# EAGLE library part OVERO (library Overo)
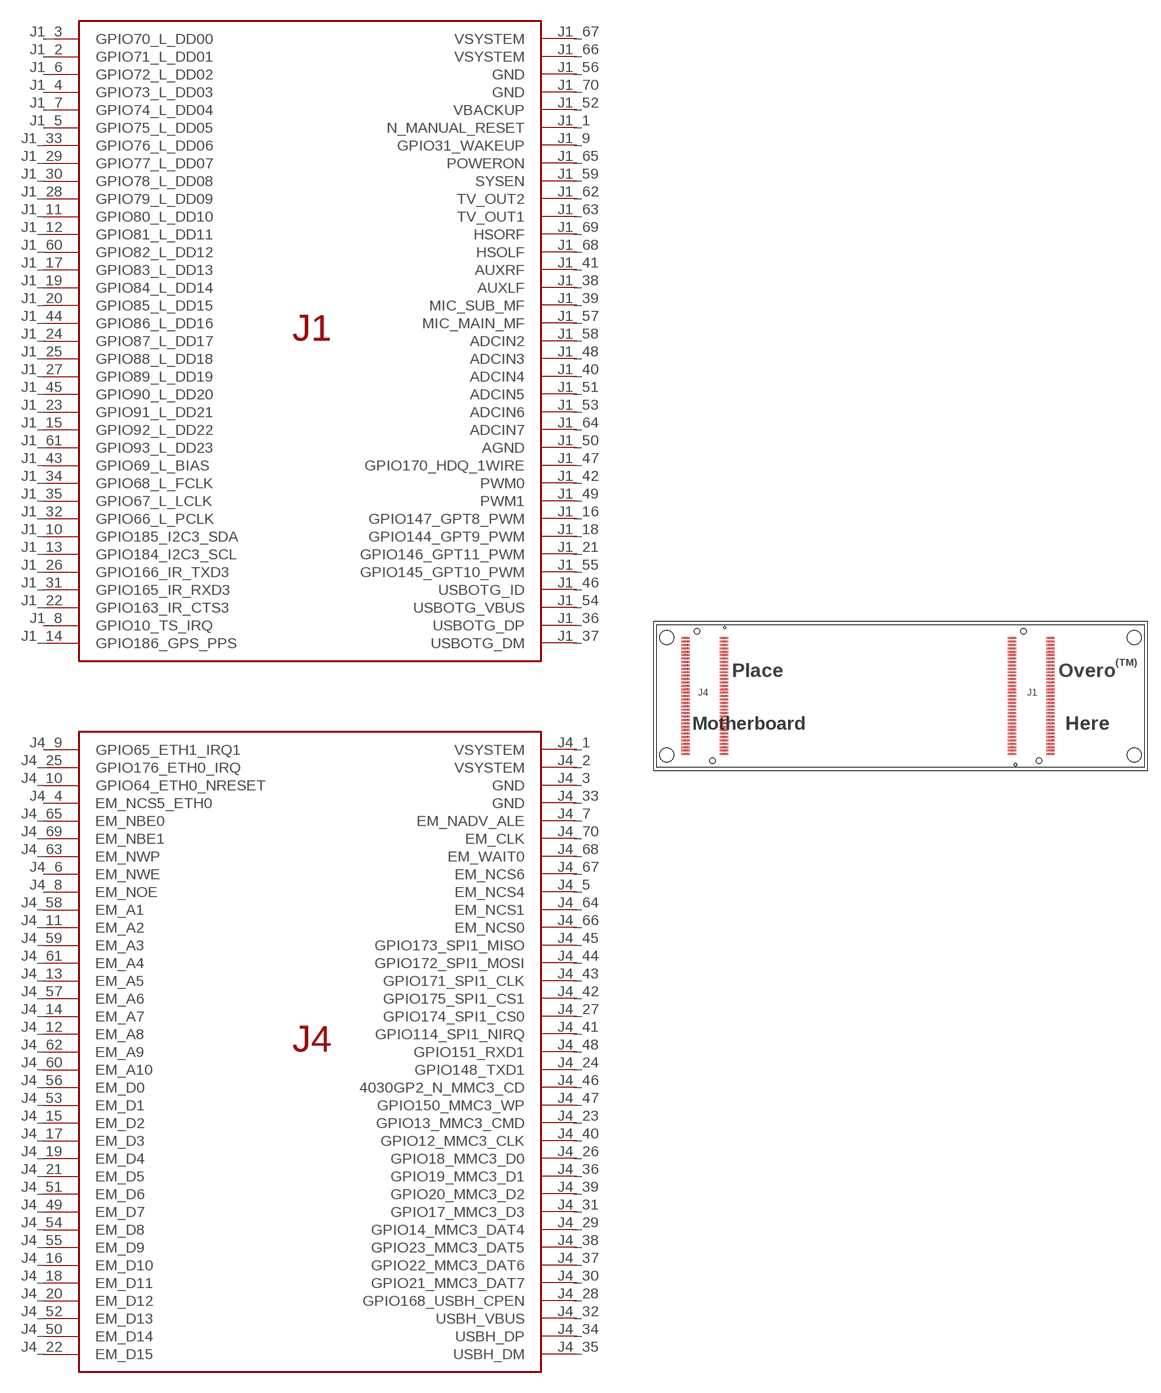
[diagram p0: symbol with the pads of OVERO; footprint OVERO]

Designator prefix -

## OVERO  [OVERO]
J1_1  N_MANUAL_RESET
J1_2  GPIO71_L_DD01
J1_3  GPIO70_L_DD00
J1_4  GPIO73_L_DD03
J1_5  GPIO75_L_DD05
J1_6  GPIO72_L_DD02
J1_7  GPIO74_L_DD04
J1_8  GPIO10_TS_IRQ
J1_9  GPIO31_WAKEUP
J1_10  GPIO185_I2C3_SDA
J1_11  GPIO80_L_DD10
J1_12  GPIO81_L_DD11
J1_13  GPIO184_I2C3_SCL
J1_14  GPIO186_GPS_PPS
J1_15  GPIO92_L_DD22
J1_16  GPIO147_GPT8_PWM
J1_17  GPIO83_L_DD13
J1_18  GPIO144_GPT9_PWM
J1_19  GPIO84_L_DD14
J1_20  GPIO85_L_DD15
J1_21  GPIO146_GPT11_PWM
J1_22  GPIO163_IR_CTS3
J1_23  GPIO91_L_DD21
J1_24  GPIO87_L_DD17
J1_25  GPIO88_L_DD18
J1_26  GPIO166_IR_TXD3
J1_27  GPIO89_L_DD19
J1_28  GPIO79_L_DD09
J1_29  GPIO77_L_DD07
J1_30  GPIO78_L_DD08
J1_31  GPIO165_IR_RXD3
J1_32  GPIO66_L_PCLK
J1_33  GPIO76_L_DD06
J1_34  GPIO68_L_FCLK
J1_35  GPIO67_L_LCLK
J1_36  USBOTG_DP
J1_37  USBOTG_DM
J1_38  AUXLF
J1_39  MIC_SUB_MF
J1_40  ADCIN4
J1_41  AUXRF
J1_42  PWM0
J1_43  GPIO69_L_BIAS
J1_44  GPIO86_L_DD16
J1_45  GPIO90_L_DD20
J1_46  USBOTG_ID
J1_47  GPIO170_HDQ_1WIRE
J1_48  ADCIN3
J1_49  PWM1
J1_50  AGND
J1_51  ADCIN5
J1_52  VBACKUP
J1_53  ADCIN6
J1_54  USBOTG_VBUS
J1_55  GPIO145_GPT10_PWM
J1_56  GND
J1_57  MIC_MAIN_MF
J1_58  ADCIN2
J1_59  SYSEN
J1_60  GPIO82_L_DD12
J1_61  GPIO93_L_DD23
J1_62  TV_OUT2
J1_63  TV_OUT1
J1_64  ADCIN7
J1_65  POWERON
J1_66  VSYSTEM
J1_67  VSYSTEM
J1_68  HSOLF
J1_69  HSORF
J1_70  GND
J4_1  VSYSTEM
J4_2  VSYSTEM
J4_3  GND
J4_4  EM_NCS5_ETH0
J4_5  EM_NCS4
J4_6  EM_NWE
J4_7  EM_NADV_ALE
J4_8  EM_NOE
J4_9  GPIO65_ETH1_IRQ1
J4_10  GPIO64_ETH0_NRESET
J4_11  EM_A2
J4_12  EM_A8
J4_13  EM_A5
J4_14  EM_A7
J4_15  EM_D2
J4_16  EM_D10
J4_17  EM_D3
J4_18  EM_D11
J4_19  EM_D4
J4_20  EM_D12
J4_21  EM_D5
J4_22  EM_D15
J4_23  GPIO13_MMC3_CMD
J4_24  GPIO148_TXD1
J4_25  GPIO176_ETH0_IRQ
J4_26  GPIO18_MMC3_D0
J4_27  GPIO174_SPI1_CS0
J4_28  GPIO168_USBH_CPEN
J4_29  GPIO14_MMC3_DAT4
J4_30  GPIO21_MMC3_DAT7
J4_31  GPIO17_MMC3_D3
J4_32  USBH_VBUS
J4_33  GND
J4_34  USBH_DP
J4_35  USBH_DM
J4_36  GPIO19_MMC3_D1
J4_37  GPIO22_MMC3_DAT6
J4_38  GPIO23_MMC3_DAT5
J4_39  GPIO20_MMC3_D2
J4_40  GPIO12_MMC3_CLK
J4_41  GPIO114_SPI1_NIRQ
J4_42  GPIO175_SPI1_CS1
J4_43  GPIO171_SPI1_CLK
J4_44  GPIO172_SPI1_MOSI
J4_45  GPIO173_SPI1_MISO
J4_46  4030GP2_N_MMC3_CD
J4_47  GPIO150_MMC3_WP
J4_48  GPIO151_RXD1
J4_49  EM_D7
J4_50  EM_D14
J4_51  EM_D6
J4_52  EM_D13
J4_53  EM_D1
J4_54  EM_D8
J4_55  EM_D9
J4_56  EM_D0
J4_57  EM_A6
J4_58  EM_A1
J4_59  EM_A3
J4_60  EM_A10
J4_61  EM_A4
J4_62  EM_A9
J4_63  EM_NWP
J4_64  EM_NCS1
J4_65  EM_NBE0
J4_66  EM_NCS0
J4_67  EM_NCS6
J4_68  EM_WAIT0
J4_69  EM_NBE1
J4_70  EM_CLK

## Footprint OVERO (pad centres in mm)
smd 1 x 0.23: J1_1 13.1,-6.8; J1_2 13.1,-6.4; J1_3 13.1,-6; J1_4 13.1,-5.6; J1_5 13.1,-5.2; J1_6 13.1,-4.8; J1_7 13.1,-4.4; J1_8 13.1,-4; J1_9 13.1,-3.6; J1_10 13.1,-3.2; J1_11 13.1,-2.8; J1_12 13.1,-2.4; J1_13 13.1,-2; J1_14 13.1,-1.6; J1_15 13.1,-1.2; J1_16 13.1,-0.8; J1_17 13.1,-0.4; J1_18 13.1,0; J1_19 13.1,0.4; J1_20 13.1,0.8; J1_21 13.1,1.2; J1_22 13.1,1.6; J1_23 13.1,2; J1_24 13.1,2.4; J1_25 13.1,2.8; J1_26 13.1,3.2; J1_27 13.1,3.6; J1_28 13.1,4; J1_29 13.1,4.4; J1_30 13.1,4.8; J1_31 13.1,5.2; J1_32 13.1,5.6; J1_33 13.1,6; J1_34 13.1,6.4; J1_35 13.1,6.8; J1_36 17.6,6.8; J1_37 17.6,6.4; J1_38 17.6,6; J1_39 17.6,5.6; J1_40 17.6,5.2; J1_41 17.6,4.8; J1_42 17.6,4.4; J1_43 17.6,4; J1_44 17.6,3.6; J1_45 17.6,3.2; J1_46 17.6,2.8; J1_47 17.6,2.4; J1_48 17.6,2; J1_49 17.6,1.6; J1_50 17.6,1.2; J1_51 17.6,0.8; J1_52 17.6,0.4; J1_53 17.6,0; J1_54 17.6,-0.4; J1_55 17.6,-0.8; J1_56 17.6,-1.2; J1_57 17.6,-1.6; J1_58 17.6,-2; J1_59 17.6,-2.4; J1_60 17.6,-2.8; J1_61 17.6,-3.2; J1_62 17.6,-3.6; J1_63 17.6,-4; J1_64 17.6,-4.4; J1_65 17.6,-4.8; J1_66 17.6,-5.2; J1_67 17.6,-5.6; J1_68 17.6,-6; J1_69 17.6,-6.4; J1_70 17.6,-6.8; J4_1 -20.7,6.8; J4_2 -20.7,6.4; J4_3 -20.7,6; J4_4 -20.7,5.6; J4_5 -20.7,5.2; J4_6 -20.7,4.8; J4_7 -20.7,4.4; J4_8 -20.7,4; J4_9 -20.7,3.6; J4_10 -20.7,3.2; J4_11 -20.7,2.8; J4_12 -20.7,2.4; J4_13 -20.7,2; J4_14 -20.7,1.6; J4_15 -20.7,1.2; J4_16 -20.7,0.8; J4_17 -20.7,0.4; J4_18 -20.7,0; J4_19 -20.7,-0.4; J4_20 -20.7,-0.8; J4_21 -20.7,-1.2; J4_22 -20.7,-1.6; J4_23 -20.7,-2; J4_24 -20.7,-2.4; J4_25 -20.7,-2.8; J4_26 -20.7,-3.2; J4_27 -20.7,-3.6; J4_28 -20.7,-4; J4_29 -20.7,-4.4; J4_30 -20.7,-4.8; J4_31 -20.7,-5.2; J4_32 -20.7,-5.6; J4_33 -20.7,-6; J4_34 -20.7,-6.4; J4_35 -20.7,-6.8; J4_36 -25.2,-6.8; J4_37 -25.2,-6.4; J4_38 -25.2,-6; J4_39 -25.2,-5.6; J4_40 -25.2,-5.2; J4_41 -25.2,-4.8; J4_42 -25.2,-4.4; J4_43 -25.2,-4; J4_44 -25.2,-3.6; J4_45 -25.2,-3.2; J4_46 -25.2,-2.8; J4_47 -25.2,-2.4; J4_48 -25.2,-2; J4_49 -25.2,-1.6; J4_50 -25.2,-1.2; J4_51 -25.2,-0.8; J4_52 -25.2,-0.4; J4_53 -25.2,0; J4_54 -25.2,0.4; J4_55 -25.2,0.8; J4_56 -25.2,1.2; J4_57 -25.2,1.6; J4_58 -25.2,2; J4_59 -25.2,2.4; J4_60 -25.2,2.8; J4_61 -25.2,3.2; J4_62 -25.2,3.6; J4_63 -25.2,4; J4_64 -25.2,4.4; J4_65 -25.2,4.8; J4_66 -25.2,5.2; J4_67 -25.2,5.6; J4_68 -25.2,6; J4_69 -25.2,6.4; J4_70 -25.2,6.8
hole 1.65 at 27.4,6.9
hole 1.65 at 27.4,-6.9
hole 0.65 at -23.85,7.6
hole 0.65 at -22.05,-7.6
hole 0.65 at 14.45,7.6
hole 0.65 at 16.25,-7.6
hole 1.65 at -27.4,6.9
hole 1.65 at -27.4,-6.9